# EAGLE library part ICL7662CBD (library oli)
CMOS Voltage Converter
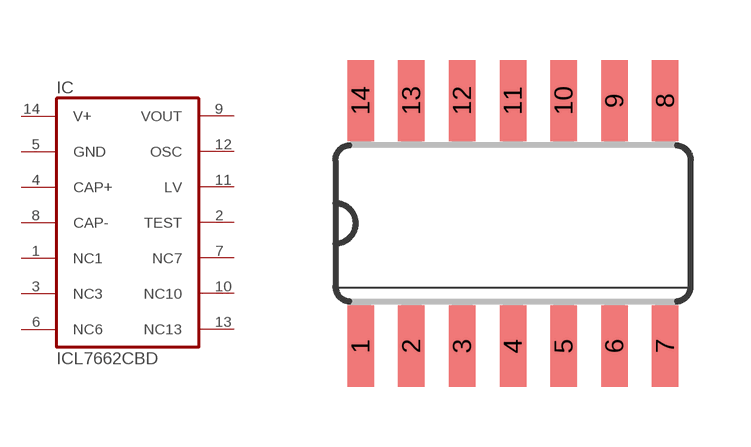
[diagram p2: symbol with the pads of SO14; footprint SO14]

Designator prefix IC

## ICL7662CBD  [SO14]
1  NC1  nc
2  TEST  pas
3  NC3  nc
4  CAP+  pas
5  GND  pwr
6  NC6  nc
7  NC7  nc
8  CAP-  pas
9  VOUT  out
10  NC10  nc
11  LV  pas
12  OSC  out
13  NC13  nc
14  V+  pwr

## Footprint SO14 (pad centres in mm)
Small Outline package 150 mil
smd 0.66 x 2.032: 1 -3.81,-3.073; 2 -2.54,-3.073; 3 -1.27,-3.073; 4 0,-3.073; 5 1.27,-3.073; 6 2.54,-3.073; 7 3.81,-3.073; 8 3.81,3.073; 9 2.54,3.073; 10 1.27,3.073; 11 0,3.073; 12 -1.27,3.073; 13 -2.54,3.073; 14 -3.81,3.073